# Altium schematic symbol library Smart_DCDC.SCHLIB: 10 symbols
Pins are listed as number, name and electrical type; pins without a type are passive.

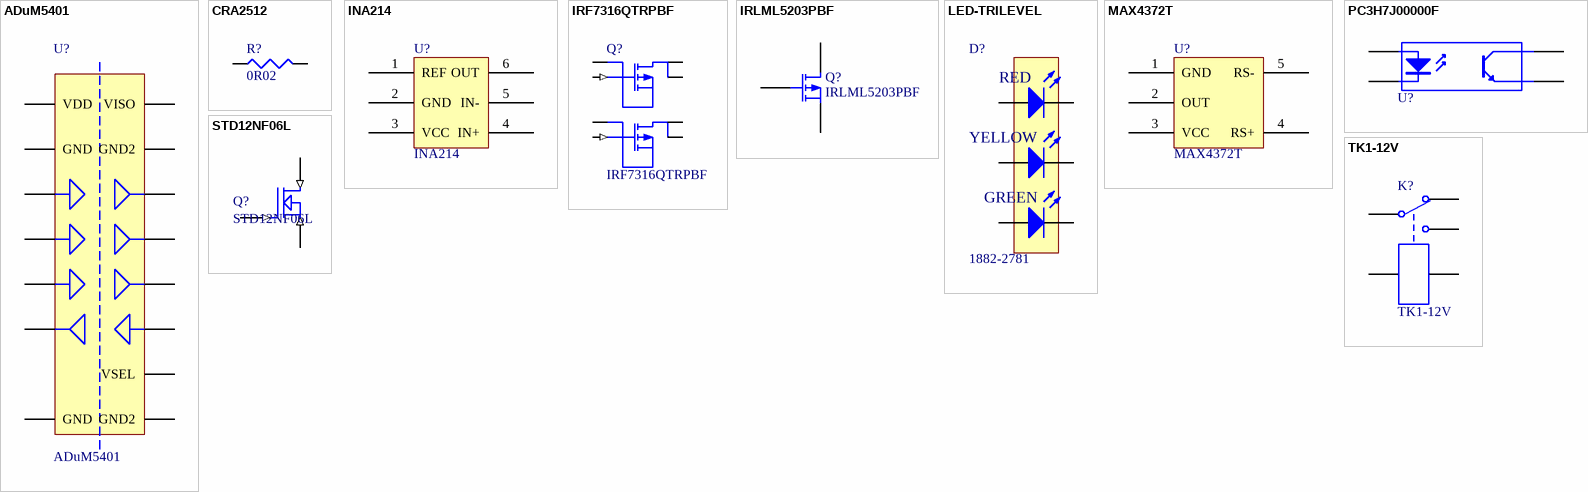
[diagram p0: symbols ADuM5401 to TK1-12V]

## ADuM5401
designator U?
Isolator w/ DCDC; Digikey: ADUM5401ARWZ-ND
footprint SOIC_W16
pins: 1 VDD, 2 GND, 3 IN1, 4 IN2, 5 IN3, 6 OUT4, 8 GND, 9 GND2, 10 VSEL, 11 IN4, 12 OUT3, 13 OUT2, 14 OUT1, 15 GND2, 16 VISO

## CRA2512
designator R?, comment 0R02
Current Sense Resistor; Farnell: 1435948; Price: 0.736
footprint CRA2512
pins: 1, 2

## INA214
designator U?
Current Sensor; Farnell: 1606447
footprint SC70-6
pins: 1 REF, 2 GND, 3 VCC, 4 IN+, 5 IN-, 6 OUT

## IRF7316QTRPBF
designator Q?
Dual P-type MOSFET IC; Farnell: 1531284; FarnellPrice: 1.47; Digikey: IRF7316QTRPBFCT-ND; DigikeyPrice: 1.8
footprint SO8
pins: 1 S1 (io), 2 G1 (in), 3 S2 (io), 4 G2 (in), 5 D2 (io), 6 D2 (io), 7 D1 (io), 8 D1 (io)

## IRLML5203PBF
designator Q?
MOSFET P-type SOT-23-3; Farnell: 9103511; FarnellPrice: 0.71
footprint SOT23-3
pins: 1 G, 2 S, 3 D

## LED-TRILEVEL
designator D?, comment 1882-2781
Three level LED; Farnell: 1461596
footprint LED_TRILEVEL
pins: 1 K, 2 K, 3 K, 4 A, 5 A, 6 A
text: RED; YELLOW; GREEN

## MAX4372T
designator U?
Current Sense Amplifier; Farnell: None; Digikey: MAX4372TEUK+TCT-ND; Price: 1.88
footprint SOT23-5
pins: 1 GND, 2 OUT, 3 VCC, 4 RS+, 5 RS-

## PC3H7J00000F
designator U?  (value not drawn)
Opto-coupler; Farnell: 9707603; Price: 0.6
footprint PC3H7
pins: 1 A, 2 K, 3 E, 4 C

## STD12NF06L
designator Q?
N-type power MOSFET; Farnell: 9946373
footprint DPAK_N-MOSFET (STD12NF06L)
pins: 1 G (in), 2 D (in), 3 S (in)

## TK1-12V
designator K?
SPCO 12V 2A Relay; Farnell: 1380961
footprint TK1-12V
pins: 1, 3, 4, 5, 6